# Altium footprint library СТАБИЛИЗАТ-MM.PcbLib: 21 footprints (part 1 of 2)
Each footprint in its own frame and in the unit in brackets; x right, y up, seen from the top. Pads: shape width x height; smd on the part's side, far side on the other; paste and mask are expansions set on the pad; w line width, h text height; cw(c..) or ccw(c..) is an arc to the next point about the centre after c.
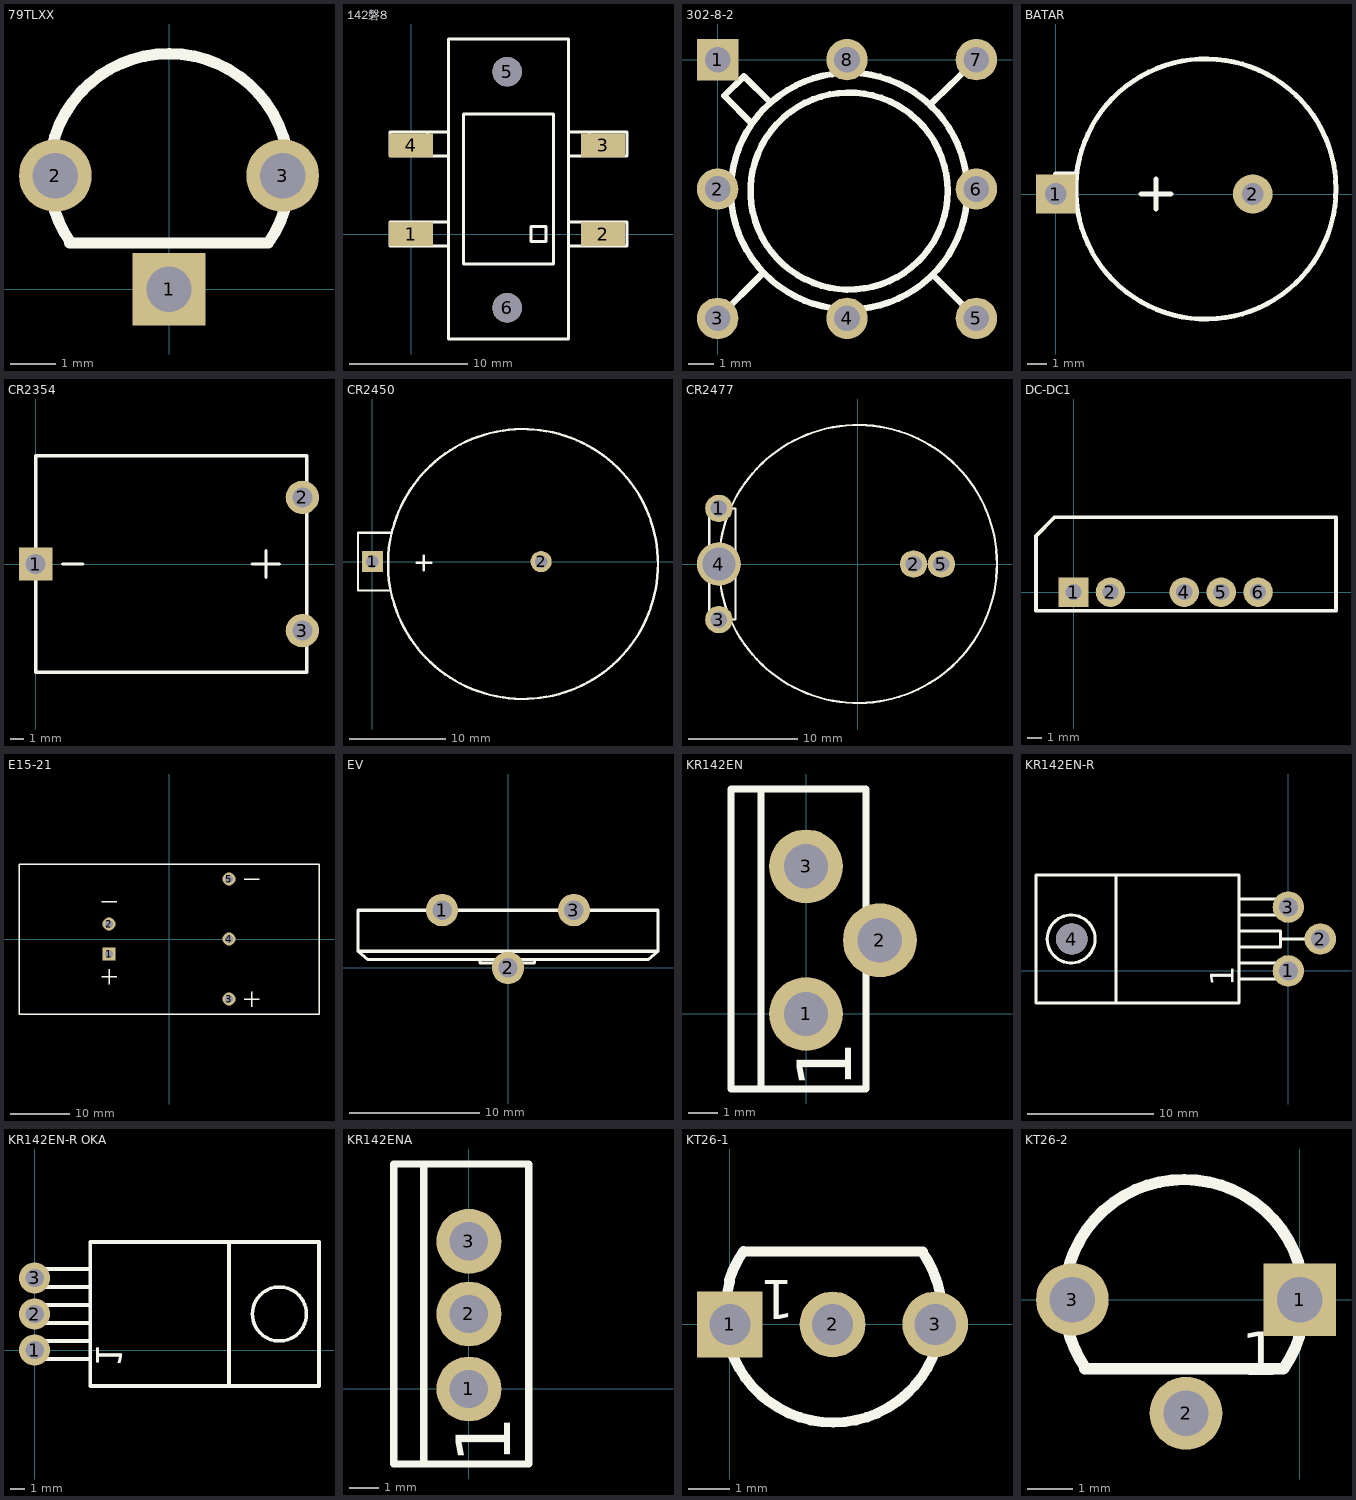
[diagram p0: the footprints below, top view; thin cyan lines are the x and y axes]

## 79TLXX [mm]
pads (3):
  rect 1.6x1.6 hole 1: 1(0,0)
  round 1.6 hole 1: 2(-2.5,2.5) 3(2.5,2.5)
Top Overlay:
  lines w0.025: -0.025,5.207 0,5.207
  lines w0.25: -2.184,1.016 2.184,1.016 ccw(c0,2.54) 2.535,1.721 ; -2.165,1.024 cw(c0,2.54) -2.513,1.723 cw(c-0.102,2.54) -2.513,3.356 cw(c0,2.54) 2.515,3.352 cw(c0,2.54) 2.515,1.728

## 142磐8 [mm]
pads (6):
  rect 3.75x2 smd: 1(0,0) 2(16.25,0) 3(16.25,7.5) 4(0,7.5)
  round 2.5 hole 2.5: 5(8.125,13.75) 6(8.125,-6.25)
Top Overlay:
  lines w0.25: 1.397,-1.016 1.397,1.016 ; 1.397,6.604 1.397,8.636 ; 3.175,-1.016 -1.778,-1.016 -1.778,1.016 3.175,1.016 ; 3.175,6.604 -1.778,6.604 -1.778,8.636 3.175,8.636 ; 13.335,-1.016 18.288,-1.016 18.288,1.016 13.335,1.016 ; 13.335,6.604 18.288,6.604 18.288,8.636 13.335,8.636 ; 15.113,-1.016 15.113,1.016 ; 15.113,6.604 15.113,8.636 ; 3.175,-8.89 13.335,-8.89 13.335,16.51 3.175,16.51 3.175,-8.89 ; 4.445,-2.54 12.065,-2.54 12.065,10.16 4.445,10.16 4.445,-2.54 ; 10.16,-0.635 10.16,0.635 11.43,0.635 11.43,-0.635 10.16,-0.635

## 302-8-2 [mm]
pads (8):
  rect 1.6x1.6 hole 1: 1(0,0)
  round 1.6 hole 1: 2(0,-5) 3(0,-10) 4(5,-10) 5(10,-10) 6(10,-5) 7(10,0) 8(5,0)
Top Overlay:
  circle w0.25: c5.08,-5.08 r4.572
  circle w0.25: c5.08,-5.08 r3.81
  lines w0.25: 0,-10 1.75,-8.25 ; 0,-5 0.45,-5 ; 0,0 0.635,-0.635 ; 1.321,-2.464 0.254,-1.397 1.016,-0.635 2.032,-1.651 ; 5,-10 5,-9.65 ; 5,-0.5 5,0 ; 8.2,-1.75 10,0 ; 8.35,-8.35 10,-10 ; 9.65,-5 10,-5

## BATAR [mm]
pads (2):
  rect 2x2 hole 1.1: 1(0,0)
  round 2 hole 1.1: 2(10,0)
Top Overlay:
  circle w0.25: c7.62,0.254 r6.604
  lines w0.25: 1.016,-0.762 0,-0.762 0,1.016 1.016,1.016 ; 4.318,0 5.842,0 ; 5.08,-0.762 5.08,0.762

## CR2354 [mm]
pads (3):
  rect 2.5x2.5 hole 1.5: 1(0,0)
  round 2.5 hole 1.5: 2(20,5) 3(20,-5)
Top Overlay:
  lines w0.25: 2.032,0 3.556,0 ; 16.256,0 18.288,0 ; 17.272,-1.016 17.272,1.016 ; 0,-8.128 20.32,-8.128 20.32,8.128 0,8.128 0,0 0,-8.128

## CR2450 [mm]
pads (2):
  rect 2.2x2.2 hole 1.3: 1(0,0)
  round 2.2 hole 1.3: 2(17.5,0)
Top Overlay:
  circle w0.25: c15.62,-0.246 r14.005
  lines w0.25: 1.875,-3 -1.5,-3 -1.5,3 2,3 ; 4.568,-0.125 6.092,-0.125 ; 5.33,-0.887 5.33,0.637

## CR2477 [mm]
pads (5):
  round 2.5 hole 1.5: 1(-12.7,5.08) 2(5.08,0) 3(-12.7,-5.08) 5(7.62,0)
  round 4 hole 3: 4(-12.7,0)
Top Overlay:
  circle w0.2: c0,0 r12.7
  lines w0.2: -13.589,-5.08 -13.589,5.08 -12.7,5.08 -11.176,5.08 -11.176,-5.08 -13.589,-5.08

## DC-DC1 [mm]
pads (5):
  rect 2x2 hole 1.1: 1(0,0)
  round 2 hole 1.1: 2(2.5,0) 4(7.5,0) 5(10,0) 6(12.5,0)
Top Overlay:
  lines w0.25: -2.54,-1.27 17.78,-1.27 17.78,5.08 -1.27,5.08 -2.54,3.81 -2.54,-1.27

## E15-21 [mm]
pads (5):
  rect 2.2x2.2 hole 1.3: 1(-10.16,-2.54)
  round 2.2 hole 1.3: 2(-10.16,2.54) 3(10.16,-10.16) 4(10.16,0) 5(10.16,10.16)
Top Overlay:
  lines w0.25: -11.43,-6.35 -8.89,-6.35 ; -11.43,6.35 -8.89,6.35 ; -10.16,-7.62 -10.16,-5.08 ; 12.7,-10.16 15.24,-10.16 ; 12.7,10.16 15.24,10.16 ; 13.97,-11.43 13.97,-8.89 ; -25.4,-12.7 25.4,-12.7 25.4,12.7 -25.4,12.7 -25.4,-12.7

## EV [mm]
pads (3):
  round 2.5 hole 1.5: 1(-5.08,4.445) 2(0,0) 3(5.08,4.445)
Top Overlay:
  lines w0.25: -11.43,1.27 11.43,1.27 ; -2.159,0.635 -2.159,0.381 2.032,0.381 2.032,0.635 ; -11.557,1.27 -11.557,4.445 11.557,4.445 11.557,1.27 10.795,0.635 -10.795,0.635 -11.557,1.27

## KR142EN [mm]
pads (3):
  round 2.5 hole 1.5: 1(0,0) 2(2.5,2.5) 3(0,5)
Top Overlay:
  lines w0.25: -1.524,-2.54 -1.524,7.62 ; -2.54,-2.54 2.032,-2.54 2.032,7.62 -2.54,7.62 -2.54,-2.54
  text "1" at 2.139,-2.54 h3.17

## KR142EN-R [mm]
pads (4):
  round 2.5 hole 1.5 unplated: 1(0,0) 2(2.54,2.54) 3(0,5.08)
  round 2.5 hole 2.5: 4(-17.221,2.54)
Top Overlay:
  circle w0.25: c-17.272,2.54 r1.905
  lines w0.25: -3.937,-0.635 -0.635,-0.635 -0.635,0.635 -3.937,0.635 ; -3.937,1.905 -0.635,1.905 -0.635,3.175 -3.937,3.175 ; -3.937,4.445 -0.635,4.445 -0.635,5.715 -3.937,5.715 ; -0.635,0 0,0 -0.508,0 ; -0.635,2.54 2.54,2.54 ; -0.635,5.08 0,5.08 ; -3.937,-2.54 -20.066,-2.54 -20.066,7.62 -3.937,7.62 ; -3.937,-2.54 -13.716,-2.54 -13.716,7.62 -3.937,7.62 ; -3.937,-2.54 -3.937,7.62
  text "1" at -3.703,-1.218 h3.17

## KR142EN-R OKA [mm]
pads (3):
  round 2.2 hole 1.3 unplated: 1(0,0) 2(0,2.54) 3(0,5.08)
Top Overlay:
  circle w0.25: c17.272,2.54 r1.905
  lines w0.25: 0,2.54 0.635,2.54 ; 0,5.08 0.635,5.08 ; 0.508,0 0,0 0.635,0 ; 3.937,-0.635 0.635,-0.635 0.635,0.635 3.937,0.635 ; 3.937,1.905 0.635,1.905 0.635,3.175 3.937,3.175 ; 3.937,4.445 0.635,4.445 0.635,5.715 3.937,5.715 ; 3.937,-2.54 20.066,-2.54 20.066,7.62 3.937,7.62 ; 3.937,-2.54 13.716,-2.54 13.716,7.62 3.937,7.62 ; 3.937,-2.54 3.937,7.62
  text "1" at 3.703,-1.218 h3.17

## KR142ENA [mm]
pads (3):
  round 2.2 hole 1.3: 1(0,0) 2(0,2.54) 3(0,5)
Top Overlay:
  lines w0.25: -1.524,-2.54 -1.524,7.62 ; -2.54,-2.54 2.032,-2.54 2.032,7.62 -2.54,7.62 -2.54,-2.54
  text "1" at 2.012,-2.54 h3.17

## KT26-1 [mm]
pads (3):
  rect 1.6x1.6 hole 1: 1(0,0)
  round 1.6 hole 1: 2(2.5,0) 3(5,0)
Top Overlay:
  lines w0.25: -0.019,1.077 cw(c2.515,0.254) 0.333,1.782 ; 0.001,-0.563 ccw(c2.515,0.254) 5.029,-0.558 ; 0.001,-0.562 cw(c3.2,0.254) 0.001,1.07 ; 0.33,1.778 4.699,1.778 ; 4.682,1.766 cw(c2.515,0.254) 5.029,1.066 ; 5.055,-0.505 ccw(c2.337,0.254) 5.055,1.013
  text "1" at 1.562,1.079 h0.95

## KT26-2 [mm]
pads (3):
  rect 1.6x1.6 hole 1: 1(0,0)
  round 1.6 hole 1: 2(-2.5,-2.5) 3(-5,0)
Top Overlay:
  lines w0.025: -2.565,2.667 -2.54,2.667
  lines w0.25: -4.724,-1.524 -0.356,-1.524 ccw(c-2.54,0) -0.005,-0.819 ; -4.705,-1.516 cw(c-2.54,0) -5.053,-0.817 cw(c-2.642,0) -5.053,0.816 cw(c-2.54,0) -0.025,0.812 cw(c-2.54,0) -0.025,-0.812
  text "1" at -1.283,-1.664 h0.95